# EAGLE library part UJ2-MIBH-4-MSMT-TR (library UJ2-MIBH-4-MSMT-TR)
USB Connectors USB 2.0 micro B jack 5 pin HZ mid-mnt SMT Source: Datasheet <https://componentsearchengine.com/Datasheets/1/UJ2-MIBH-4-MSMT-TR.pdf>
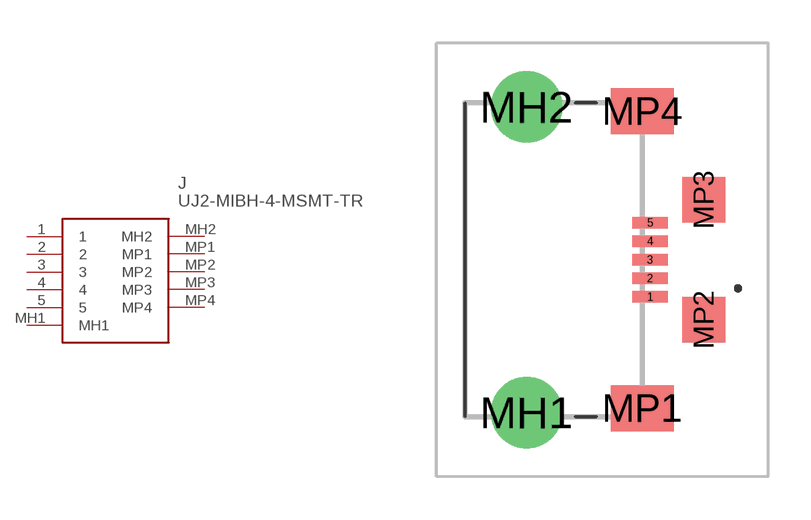
[diagram p0: symbol with the pads of UJ2MIBH4MSMTTR; footprint UJ2MIBH4MSMTTR]

Designator prefix J

## UJ2-MIBH-4-MSMT-TR (Arrow_Part_Number: UJ2-MIBH-4-MSMT-TR; Arrow_Price-Stock: https://www.arrow.com/en/products/uj2-mibh-4-msmt-tr/cui-devices; Description: USB Connectors USB 2.0 micro B jack 5 pin HZ mid-mnt SMT; Height: 2.45mm; Manufacturer_Name: CUI Inc.; Manufacturer_Part_Number: UJ2-MIBH-4-MSMT-TR; Mouser_Part_Number: 490-UJ2-MIBH-4-MSMT; Mouser_Price-Stock: https://www.mouser.co.uk/ProductDetail/CUI-Devices/UJ2-MIBH-4-MSMT-TR?qs=5mqXD9RfOg32NvuLASc7Xg%3D%3D)  [UJ2MIBH4MSMTTR]
1  1
2  2
3  3
4  4
5  5
MH1  MH1
MH2  MH2
MP1  MP1
MP2  MP2
MP3  MP3
MP4  MP4

## Footprint UJ2MIBH4MSMTTR (pad centres in mm)
UJ2-MIBH-4-MSMT-TR-1
smd 1.25 x 0.4: 1 0,-1.3; 2 0,-0.65; 3 0,0; 4 0,0.65; 5 0,1.3
drill 1.66 pad 2.49: MH1 -4.325,-5.35; MH2 -4.325,5.35
smd 2.2 x 1.6: MP1 -0.275,-5.2; MP4 -0.275,5.2
smd 1.5 x 1.6: MP2 1.875,-2.1; MP3 1.875,2.1